# EAGLE library part HM-11 (library dawa_v5.5)
JNHuaMao HM-11 Bluetooth 4.0 Transceiver based on TI CC2540/CC2541
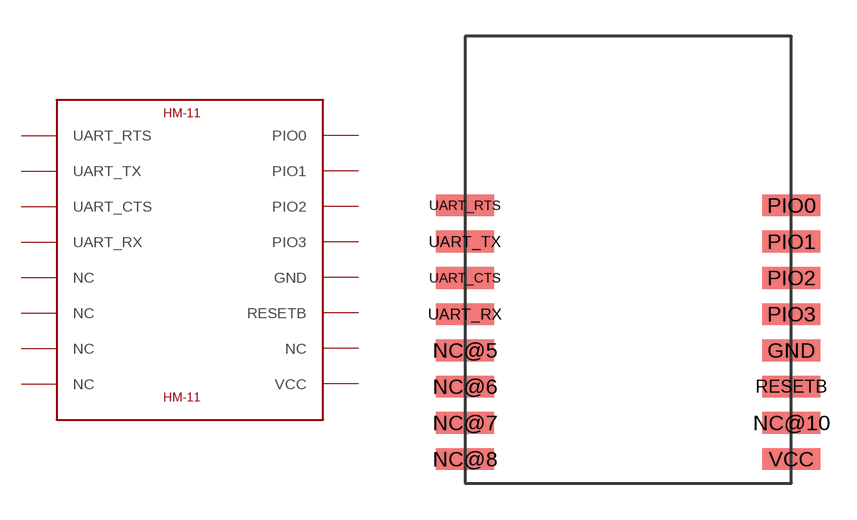
[diagram p7: symbol with the pads of HM-11; footprint HM-11]

Designator prefix -

## HM-11  [HM-11]
GND  GND
NC@5  NC
NC@6  NC
NC@7  NC
NC@8  NC
NC@10  NC
PIO0  PIO0
PIO1  PIO1
PIO2  PIO2
PIO3  PIO3
RESETB  RESETB
UART_CTS  UART_CTS
UART_RTS  UART_RTS
UART_RX  UART_RX
UART_TX  UART_TX
VCC  VCC

## Footprint HM-11 (pad centres in mm)
smd 2.4 x 0.9: GND 6.5,0; NC@5 -7,0; NC@6 -7,-1.5; NC@7 -7,-3; NC@8 -7,-4.5; NC@10 6.5,-3; PIO0 6.5,6; PIO1 6.5,4.5; PIO2 6.5,3; PIO3 6.5,1.5; RESETB 6.5,-1.5; UART_CTS -7,3; UART_RTS -7,6; UART_RX -7,1.5; UART_TX -7,4.5; VCC 6.5,-4.5